# EAGLE library part CON-S-VIDEO (library m-pad-2.1)
Various Connectors for S-Video - CUI Inc
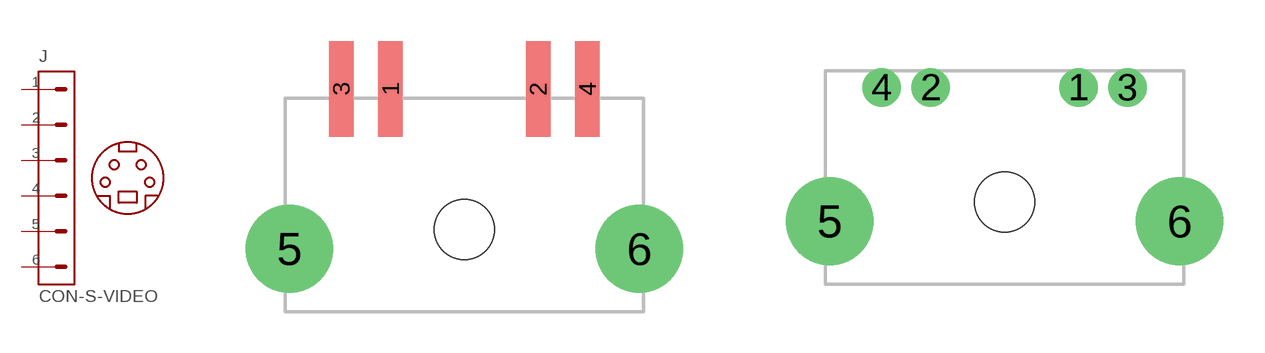
[diagram p101: symbol with the pads of CON-MD2-40ST-SMT; footprints CON-MD2-40ST-SMT, CON-MD2-40ST]

Designator prefix J

## CON-S-VIDEO-SMT  [CON-MD2-40ST-SMT]
1  1  pas
2  2  pas
3  3  pas
4  4  pas
5  SHIELD  pas
6  SHIELD  pas

## CON-S-VIDEO  [CON-MD2-40ST]
Pads as for CON-MD2-40ST-SMT

## Footprint CON-MD2-40ST-SMT (pad centres in mm)
CUI Inc's MD2-40ST MINIATURE CIRCULAR DIN CONNECTOR SPECIFICATIONS: RATING: 12V DC @ 2A; 100V AC @ 1A CONTACT RESISTANCE: 30m OHMS MAX INSULATION RESISTANCE: 50M OHMS MIN: 250V DC VOLTAGE WITHSTAND: 250V AC R.M.S. FOR 1 MINUTE INSERTION FORCE: 4.5KG MAX WITHDRAWAL FORCE: 0.8KG~3.5KG LIFE: 5,000 CYCLES Please send any comments to: messi@users.sourceforge.net
smd 0.9 x 3.5: 1 -2.7,-1.75; 2 2.7,-1.75; 3 -4.5,-1.75; 4 4.5,-1.75
drill 2.2 pad 3: 5 -6.4,-7.6; 6 6.4,-7.6
hole 2.2 at 0,-6.9

## Footprint CON-MD2-40ST (pad centres in mm)
CUI Inc's MD2-40ST MINIATURE CIRCULAR DIN CONNECTOR SPECIFICATIONS: RATING: 12V DC @ 2A; 100V AC @ 1A CONTACT RESISTANCE: 30m OHMS MAX INSULATION RESISTANCE: 50M OHMS MIN: 250V DC VOLTAGE WITHSTAND: 250V AC R.M.S. FOR 1 MINUTE INSERTION FORCE: 4.5KG MAX WITHDRAWAL FORCE: 0.8KG~3.5KG LIFE: 5,000 CYCLES Please send any comments to: messi@users.sourceforge.net
drill 0.9: 1 2.7,-0.6; 2 -2.7,-0.6; 3 4.5,-0.6; 4 -4.5,-0.6
drill 2.2 pad 3: 5 -6.4,-5.5; 6 6.4,-5.5
hole 2.2 at 0,-4.8